# Altium integrated library TI Data Converters Digital to Analog Converter.IntLib: 1533 symbols (part 5 of 99)
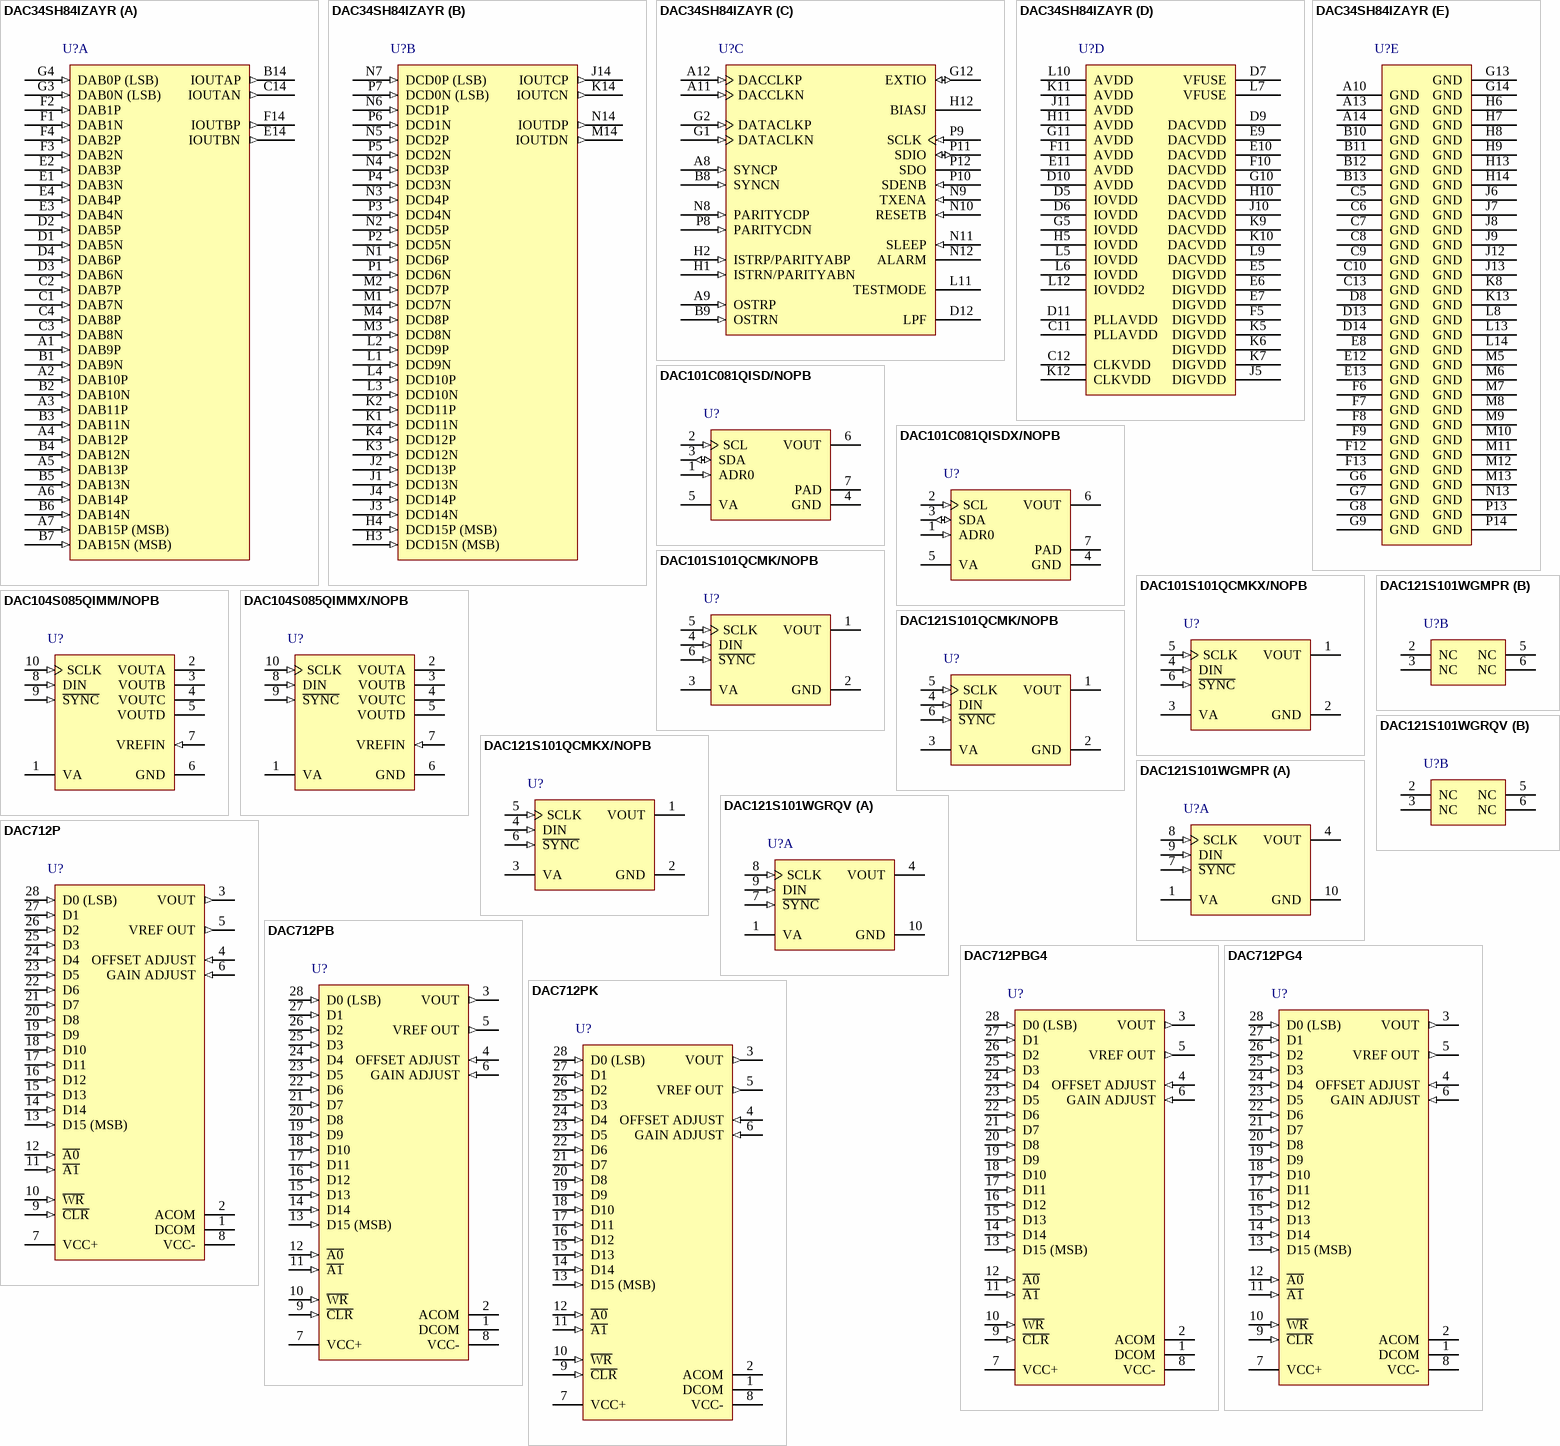
[diagram p77: symbols DAC34SH84IZAYR to DAC712PK]

## DAC712PBG4
designator U?
Digital-to-Converter with 16-Bit Bus Interface, -40 to 85 degC, 28-pin DIP (NT28), Green (RoHS & no Sb/Br); Manufacturer: Texas Instruments; PartNumber: DAC712PBG4; DAC Channels: 1; DNL(Max)(+/-LSB): 2; Interface: Parallel; Power Consumption(Typ)(mW): 525; Resolution(Bits): 16; Settling Time(us): 10; SubFamily: Precision DAC (=<10MSPS); DatasheetVersion: SBAS023A; PackageVersion: 4040050/C, 04/2009; PackageReference: NT28; PackageDescription: 28-Pin Plastic Dual-In-Line Package, Body 35.69 x 6.73 mm, Pitch 2.54 mm; Supplier 1: Digi-Key; Supplier Part Number 1: DAC712PBG4-ND; Supplier 2: Mouser; Supplier Part Number 2: 595-DAC712PBG4; Eco-Plan: Green (RoHS & no Sb/Br); INL(Max)(+/-LSB): 2; Mounting Technology: Through Hole; ComponentLink1Description: Manufacturer URL; ComponentLink1URL: http://www.ti.com/; ComponentLink2Description: Datasheet; ComponentLink2URL: http://www.ti.com/general/docs/lit/getliterature.tsp?genericPartNumber=DAC712&fileType=pdf; ComponentLink3Description: Package Specification; ComponentLink3URL: http://www.ti.com/lit/ml/mpdi004a/mpdi004a.pdf
footprint TI-NT28 (DIP, 28-Leads, Body 35.69x6.73mm, Pitch 2.54mm)
pins: 1 DCOM (power) "Power-Supply return for digital currents", 2 ACOM (power) "Analog Supply Return", 3 VOUT (out) "+/-10V D/A Output", 4 OFFSET ADJUST (in) "Offset Adjust (Bipolar)", 5 VREF OUT (out) "Voltage Reference Output", 6 GAIN ADJUST (in) "Gain Adjust", 7 VCC+ (power) "+12V to +15V Supply", 8 VCC- (power) "-12V to -15V Supply", 9 ~{CLR} (in) "CLEAR; Sets D/A output to Bipolar Zero (Active Low)", 10 ~{WR} (in) "Write (Active Low)", 11 ~{A1} (in) "Enable for D/A latch (Active Low)", 12 ~{A0} (in) "Enable for Input latch (Active Low)", 13 D15 (MSB) (in) "Data Bit 15 (Most Significant Bit)", 14 D14 (in) "Data Bit 14", 15 D13 (in) "Data Bit 13", 16 D12 (in) "Data Bit 12", 17 D11 (in) "Data Bit 11", 18 D10 (in) "Data Bit 10", 19 D9 (in) "Data Bit 9", 20 D8 (in) "Data Bit 8", 21 D7 (in) "Data Bit 7", 22 D6 (in) "Data Bit 6", 23 D5 (in) "Data Bit 5", 24 D4 (in) "Data Bit 4", 25 D3 (in) "Data Bit 3", 26 D2 (in) "Data Bit 2", 27 D1 (in) "Data Bit 1", 28 D0 (LSB) (in) "Data Bit 0 (Least Significant Bit)"

## DAC712PG4
designator U?
Digital-to-Converter with 16-Bit Bus Interface, -40 to 85 degC, 28-pin DIP (NT28), Green (RoHS & no Sb/Br); Manufacturer: Texas Instruments; PartNumber: DAC712PG4; DAC Channels: 1; DNL(Max)(+/-LSB): 4; Interface: Parallel; Power Consumption(Typ)(mW): 525; Resolution(Bits): 16; Settling Time(us): 10; SubFamily: Precision DAC (=<10MSPS); DatasheetVersion: SBAS023A; PackageVersion: 4040050/C, 04/2009; PackageReference: NT28; PackageDescription: 28-Pin Plastic Dual-In-Line Package, Body 35.69 x 6.73 mm, Pitch 2.54 mm; Supplier 1: Digi-Key; Supplier Part Number 1: DAC712PG4-ND; Supplier 2: Farnell; Supplier Part Number 2: 1178435; Supplier 3: Newark; Supplier Part Number 3: 24M1265; Supplier 4: Mouser; Supplier Part Number 4: 595-DAC712PG4; Eco-Plan: Green (RoHS & no Sb/Br); INL(Max)(+/-LSB): 4; Mounting Technology: Through Hole; ComponentLink1Description: Manufacturer URL; ComponentLink1URL: http://www.ti.com/; ComponentLink2Description: Datasheet; ComponentLink2URL: http://www.ti.com/general/docs/lit/getliterature.tsp?genericPartNumber=DAC712&fileType=pdf; ComponentLink3Description: Package Specification; ComponentLink3URL: http://www.ti.com/lit/ml/mpdi004a/mpdi004a.pdf
footprint TI-NT28 (DIP, 28-Leads, Body 35.69x6.73mm, Pitch 2.54mm)
pins: 1 DCOM (power) "Power-Supply return for digital currents", 2 ACOM (power) "Analog Supply Return", 3 VOUT (out) "+/-10V D/A Output", 4 OFFSET ADJUST (in) "Offset Adjust (Bipolar)", 5 VREF OUT (out) "Voltage Reference Output", 6 GAIN ADJUST (in) "Gain Adjust", 7 VCC+ (power) "+12V to +15V Supply", 8 VCC- (power) "-12V to -15V Supply", 9 ~{CLR} (in) "CLEAR; Sets D/A output to Bipolar Zero (Active Low)", 10 ~{WR} (in) "Write (Active Low)", 11 ~{A1} (in) "Enable for D/A latch (Active Low)", 12 ~{A0} (in) "Enable for Input latch (Active Low)", 13 D15 (MSB) (in) "Data Bit 15 (Most Significant Bit)", 14 D14 (in) "Data Bit 14", 15 D13 (in) "Data Bit 13", 16 D12 (in) "Data Bit 12", 17 D11 (in) "Data Bit 11", 18 D10 (in) "Data Bit 10", 19 D9 (in) "Data Bit 9", 20 D8 (in) "Data Bit 8", 21 D7 (in) "Data Bit 7", 22 D6 (in) "Data Bit 6", 23 D5 (in) "Data Bit 5", 24 D4 (in) "Data Bit 4", 25 D3 (in) "Data Bit 3", 26 D2 (in) "Data Bit 2", 27 D1 (in) "Data Bit 1", 28 D0 (LSB) (in) "Data Bit 0 (Least Significant Bit)"

## DAC712PK
designator U?
Digital-to-Converter with 16-Bit Bus Interface, 0 to 70 degC, 28-pin DIP (NT28), Green (RoHS & no Sb/Br); Manufacturer: Texas Instruments; PartNumber: DAC712PK; DAC Channels: 1; DNL(Max)(+/-LSB): 2; Interface: Parallel; Power Consumption(Typ)(mW): 525; Resolution(Bits): 16; Settling Time(us): 10; SubFamily: Precision DAC (=<10MSPS); DatasheetVersion: SBAS023A; PackageVersion: 4040050/C, 04/2009; PackageReference: NT28; PackageDescription: 28-Pin Plastic Dual-In-Line Package, Body 35.69 x 6.73 mm, Pitch 2.54 mm; Supplier 1: Digi-Key; Supplier Part Number 1: DAC712PK-ND; Supplier 2: Mouser; Supplier Part Number 2: 595-DAC712PK; Eco-Plan: Green (RoHS & no Sb/Br); INL(Max)(+/-LSB): 2; Mounting Technology: Through Hole; ComponentLink1Description: Manufacturer URL; ComponentLink1URL: http://www.ti.com/; ComponentLink2Description: Datasheet; ComponentLink2URL: http://www.ti.com/general/docs/lit/getliterature.tsp?genericPartNumber=DAC712&fileType=pdf; ComponentLink3Description: Package Specification; ComponentLink3URL: http://www.ti.com/lit/ml/mpdi004a/mpdi004a.pdf
footprint TI-NT28 (DIP, 28-Leads, Body 35.69x6.73mm, Pitch 2.54mm)
pins: 1 DCOM (power) "Power-Supply return for digital currents", 2 ACOM (power) "Analog Supply Return", 3 VOUT (out) "+/-10V D/A Output", 4 OFFSET ADJUST (in) "Offset Adjust (Bipolar)", 5 VREF OUT (out) "Voltage Reference Output", 6 GAIN ADJUST (in) "Gain Adjust", 7 VCC+ (power) "+12V to +15V Supply", 8 VCC- (power) "-12V to -15V Supply", 9 ~{CLR} (in) "CLEAR; Sets D/A output to Bipolar Zero (Active Low)", 10 ~{WR} (in) "Write (Active Low)", 11 ~{A1} (in) "Enable for D/A latch (Active Low)", 12 ~{A0} (in) "Enable for Input latch (Active Low)", 13 D15 (MSB) (in) "Data Bit 15 (Most Significant Bit)", 14 D14 (in) "Data Bit 14", 15 D13 (in) "Data Bit 13", 16 D12 (in) "Data Bit 12", 17 D11 (in) "Data Bit 11", 18 D10 (in) "Data Bit 10", 19 D9 (in) "Data Bit 9", 20 D8 (in) "Data Bit 8", 21 D7 (in) "Data Bit 7", 22 D6 (in) "Data Bit 6", 23 D5 (in) "Data Bit 5", 24 D4 (in) "Data Bit 4", 25 D3 (in) "Data Bit 3", 26 D2 (in) "Data Bit 2", 27 D1 (in) "Data Bit 1", 28 D0 (LSB) (in) "Data Bit 0 (Least Significant Bit)"

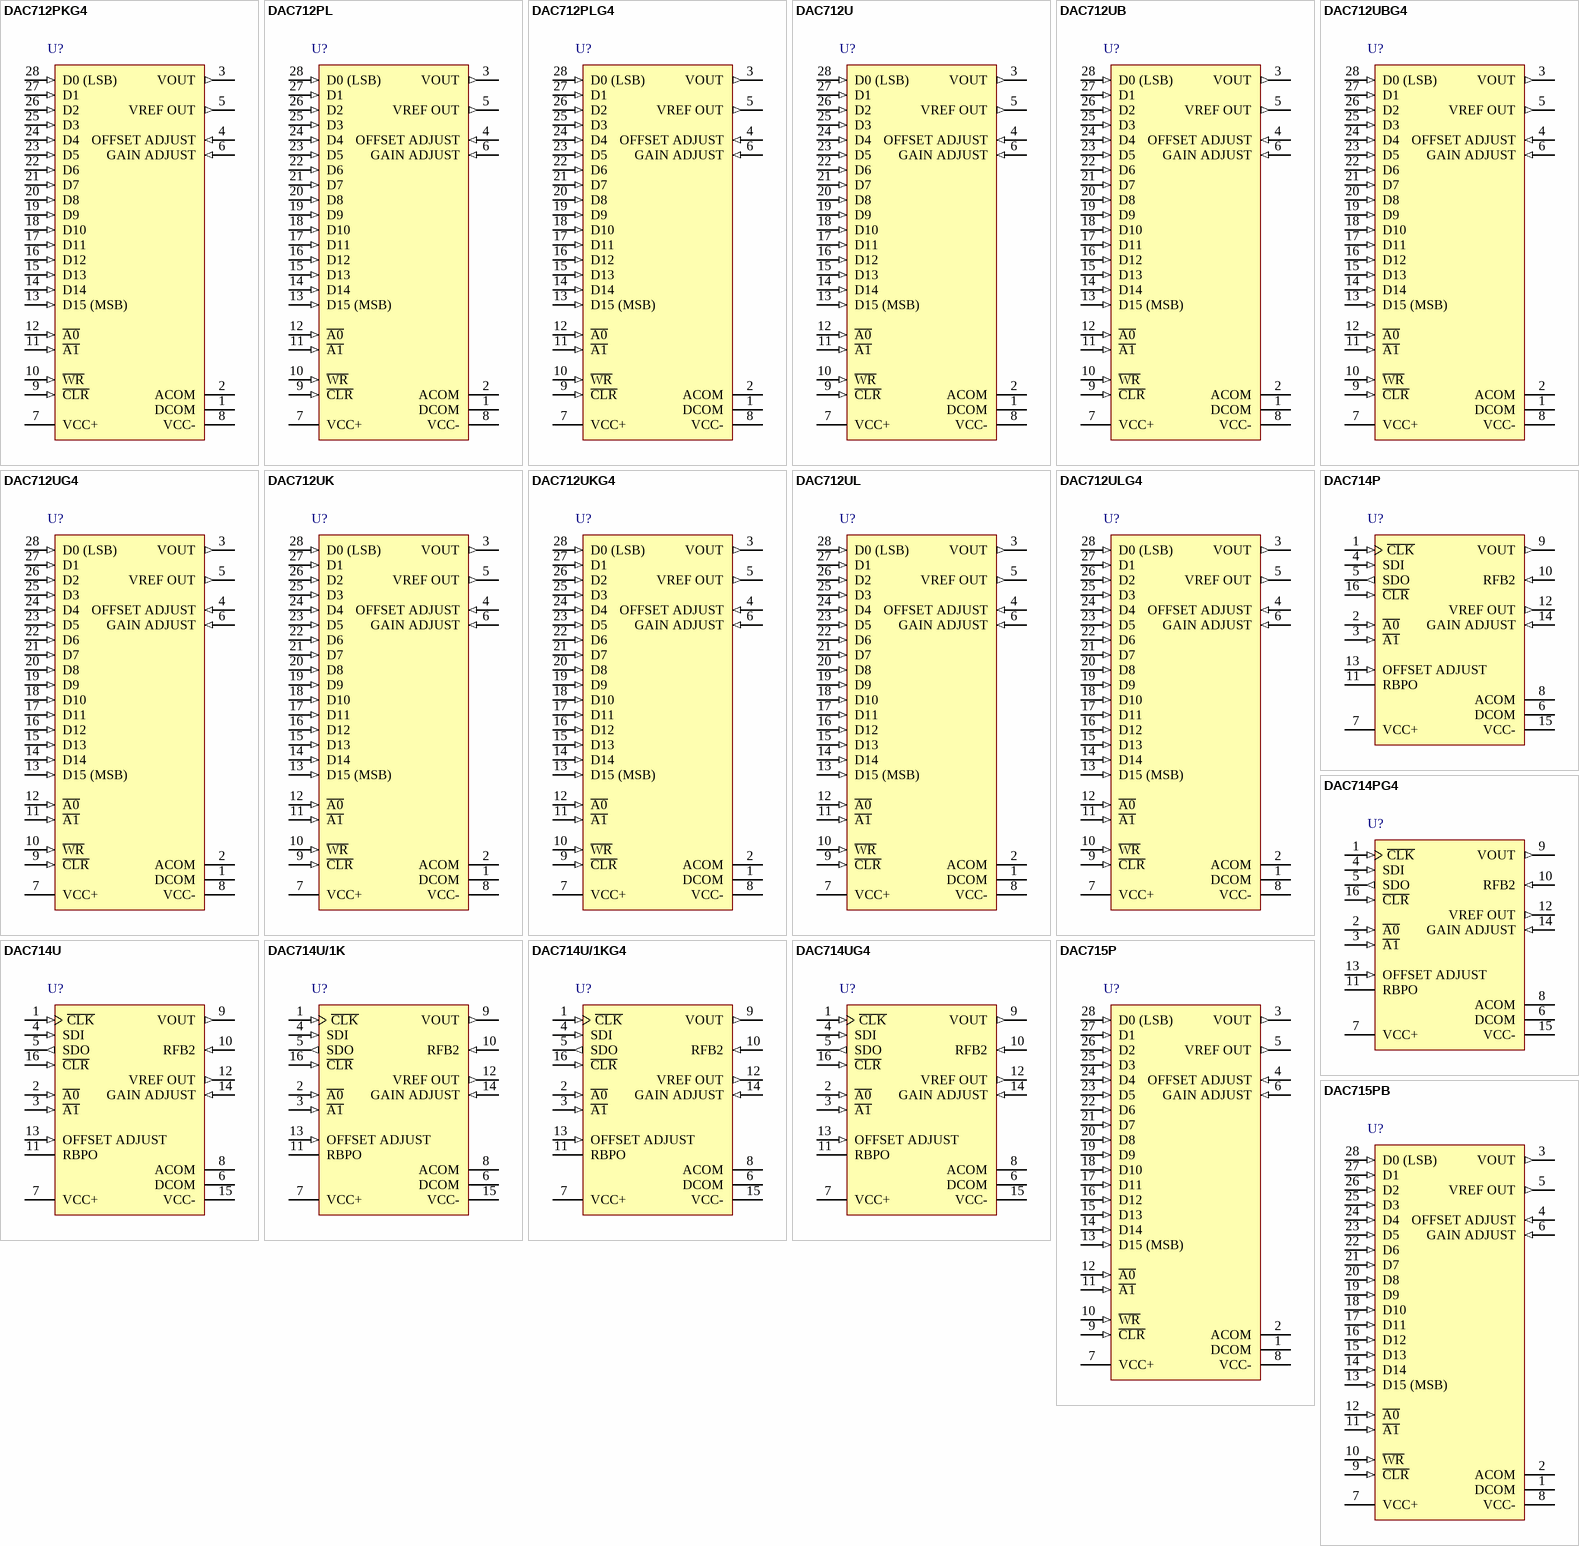
[diagram p3: symbols DAC712PKG4 to DAC715PB]

## DAC712PKG4
designator U?
Digital-to-Converter with 16-Bit Bus Interface, 0 to 70 degC, 28-pin DIP (NT28), Green (RoHS & no Sb/Br); Manufacturer: Texas Instruments; PartNumber: DAC712PKG4; DAC Channels: 1; DNL(Max)(+/-LSB): 2; Interface: Parallel; Power Consumption(Typ)(mW): 525; Resolution(Bits): 16; Settling Time(us): 10; SubFamily: Precision DAC (=<10MSPS); DatasheetVersion: SBAS023A; PackageVersion: 4040050/C, 04/2009; PackageReference: NT28; PackageDescription: 28-Pin Plastic Dual-In-Line Package, Body 35.69 x 6.73 mm, Pitch 2.54 mm; Supplier 1: Digi-Key; Supplier Part Number 1: DAC712PKG4-ND; Supplier 2: Newark; Supplier Part Number 2: 18M1973; Supplier 3: Mouser; Supplier Part Number 3: 595-DAC712PKG4; Eco-Plan: Green (RoHS & no Sb/Br); INL(Max)(+/-LSB): 2; Mounting Technology: Through Hole; ComponentLink1Description: Manufacturer URL; ComponentLink1URL: http://www.ti.com/; ComponentLink2Description: Datasheet; ComponentLink2URL: http://www.ti.com/general/docs/lit/getliterature.tsp?genericPartNumber=DAC712&fileType=pdf; ComponentLink3Description: Package Specification; ComponentLink3URL: http://www.ti.com/lit/ml/mpdi004a/mpdi004a.pdf
footprint TI-NT28 (DIP, 28-Leads, Body 35.69x6.73mm, Pitch 2.54mm)
pins: 1 DCOM (power) "Power-Supply return for digital currents", 2 ACOM (power) "Analog Supply Return", 3 VOUT (out) "+/-10V D/A Output", 4 OFFSET ADJUST (in) "Offset Adjust (Bipolar)", 5 VREF OUT (out) "Voltage Reference Output", 6 GAIN ADJUST (in) "Gain Adjust", 7 VCC+ (power) "+12V to +15V Supply", 8 VCC- (power) "-12V to -15V Supply", 9 ~{CLR} (in) "CLEAR; Sets D/A output to Bipolar Zero (Active Low)", 10 ~{WR} (in) "Write (Active Low)", 11 ~{A1} (in) "Enable for D/A latch (Active Low)", 12 ~{A0} (in) "Enable for Input latch (Active Low)", 13 D15 (MSB) (in) "Data Bit 15 (Most Significant Bit)", 14 D14 (in) "Data Bit 14", 15 D13 (in) "Data Bit 13", 16 D12 (in) "Data Bit 12", 17 D11 (in) "Data Bit 11", 18 D10 (in) "Data Bit 10", 19 D9 (in) "Data Bit 9", 20 D8 (in) "Data Bit 8", 21 D7 (in) "Data Bit 7", 22 D6 (in) "Data Bit 6", 23 D5 (in) "Data Bit 5", 24 D4 (in) "Data Bit 4", 25 D3 (in) "Data Bit 3", 26 D2 (in) "Data Bit 2", 27 D1 (in) "Data Bit 1", 28 D0 (LSB) (in) "Data Bit 0 (Least Significant Bit)"

## DAC712PL
designator U?
Digital-to-Converter with 16-Bit Bus Interface, 0 to 70 degC, 28-pin DIP (NT28), Green (RoHS & no Sb/Br); Manufacturer: Texas Instruments; PartNumber: DAC712PL; DAC Channels: 1; INL(Max)(+/-LSB): 2; Interface: Parallel; Power Consumption(Typ)(mW): 525; Resolution(Bits): 16; Settling Time(us): 10; SubFamily: Precision DAC (=<10MSPS); DatasheetVersion: SBAS023A; PackageVersion: 4040050/C, 04/2009; PackageReference: NT28; PackageDescription: 28-Pin Plastic Dual-In-Line Package, Body 35.69 x 6.73 mm, Pitch 2.54 mm; Supplier 1: Digi-Key; Supplier Part Number 1: DAC712PL-ND; Supplier 2: Mouser; Supplier Part Number 2: 595-DAC712PL; DNL(Max)(+/-LSB): 1; Eco-Plan: Green (RoHS & no Sb/Br); Mounting Technology: Through Hole; ComponentLink1Description: Manufacturer URL; ComponentLink1URL: http://www.ti.com/; ComponentLink2Description: Datasheet; ComponentLink2URL: http://www.ti.com/general/docs/lit/getliterature.tsp?genericPartNumber=DAC712&fileType=pdf; ComponentLink3Description: Package Specification; ComponentLink3URL: http://www.ti.com/lit/ml/mpdi004a/mpdi004a.pdf
footprint TI-NT28 (DIP, 28-Leads, Body 35.69x6.73mm, Pitch 2.54mm)
pins: 1 DCOM (power) "Power-Supply return for digital currents", 2 ACOM (power) "Analog Supply Return", 3 VOUT (out) "+/-10V D/A Output", 4 OFFSET ADJUST (in) "Offset Adjust (Bipolar)", 5 VREF OUT (out) "Voltage Reference Output", 6 GAIN ADJUST (in) "Gain Adjust", 7 VCC+ (power) "+12V to +15V Supply", 8 VCC- (power) "-12V to -15V Supply", 9 ~{CLR} (in) "CLEAR; Sets D/A output to Bipolar Zero (Active Low)", 10 ~{WR} (in) "Write (Active Low)", 11 ~{A1} (in) "Enable for D/A latch (Active Low)", 12 ~{A0} (in) "Enable for Input latch (Active Low)", 13 D15 (MSB) (in) "Data Bit 15 (Most Significant Bit)", 14 D14 (in) "Data Bit 14", 15 D13 (in) "Data Bit 13", 16 D12 (in) "Data Bit 12", 17 D11 (in) "Data Bit 11", 18 D10 (in) "Data Bit 10", 19 D9 (in) "Data Bit 9", 20 D8 (in) "Data Bit 8", 21 D7 (in) "Data Bit 7", 22 D6 (in) "Data Bit 6", 23 D5 (in) "Data Bit 5", 24 D4 (in) "Data Bit 4", 25 D3 (in) "Data Bit 3", 26 D2 (in) "Data Bit 2", 27 D1 (in) "Data Bit 1", 28 D0 (LSB) (in) "Data Bit 0 (Least Significant Bit)"

## DAC712PLG4
designator U?
Digital-to-Converter with 16-Bit Bus Interface, 0 to 70 degC, 28-pin DIP (NT28), Green (RoHS & no Sb/Br); Manufacturer: Texas Instruments; PartNumber: DAC712PLG4; DAC Channels: 1; INL(Max)(+/-LSB): 2; Interface: Parallel; Power Consumption(Typ)(mW): 525; Resolution(Bits): 16; Settling Time(us): 10; SubFamily: Precision DAC (=<10MSPS); DatasheetVersion: SBAS023A; PackageVersion: 4040050/C, 04/2009; PackageReference: NT28; PackageDescription: 28-Pin Plastic Dual-In-Line Package, Body 35.69 x 6.73 mm, Pitch 2.54 mm; Supplier 1: Digi-Key; Supplier Part Number 1: DAC712PLG4-ND; Supplier 2: Mouser; Supplier Part Number 2: 595-DAC712PLG4; DNL(Max)(+/-LSB): 1; Eco-Plan: Green (RoHS & no Sb/Br); Mounting Technology: Through Hole; ComponentLink1Description: Manufacturer URL; ComponentLink1URL: http://www.ti.com/; ComponentLink2Description: Datasheet; ComponentLink2URL: http://www.ti.com/general/docs/lit/getliterature.tsp?genericPartNumber=DAC712&fileType=pdf; ComponentLink3Description: Package Specification; ComponentLink3URL: http://www.ti.com/lit/ml/mpdi004a/mpdi004a.pdf
footprint TI-NT28 (DIP, 28-Leads, Body 35.69x6.73mm, Pitch 2.54mm)
pins: 1 DCOM (power) "Power-Supply return for digital currents", 2 ACOM (power) "Analog Supply Return", 3 VOUT (out) "+/-10V D/A Output", 4 OFFSET ADJUST (in) "Offset Adjust (Bipolar)", 5 VREF OUT (out) "Voltage Reference Output", 6 GAIN ADJUST (in) "Gain Adjust", 7 VCC+ (power) "+12V to +15V Supply", 8 VCC- (power) "-12V to -15V Supply", 9 ~{CLR} (in) "CLEAR; Sets D/A output to Bipolar Zero (Active Low)", 10 ~{WR} (in) "Write (Active Low)", 11 ~{A1} (in) "Enable for D/A latch (Active Low)", 12 ~{A0} (in) "Enable for Input latch (Active Low)", 13 D15 (MSB) (in) "Data Bit 15 (Most Significant Bit)", 14 D14 (in) "Data Bit 14", 15 D13 (in) "Data Bit 13", 16 D12 (in) "Data Bit 12", 17 D11 (in) "Data Bit 11", 18 D10 (in) "Data Bit 10", 19 D9 (in) "Data Bit 9", 20 D8 (in) "Data Bit 8", 21 D7 (in) "Data Bit 7", 22 D6 (in) "Data Bit 6", 23 D5 (in) "Data Bit 5", 24 D4 (in) "Data Bit 4", 25 D3 (in) "Data Bit 3", 26 D2 (in) "Data Bit 2", 27 D1 (in) "Data Bit 1", 28 D0 (LSB) (in) "Data Bit 0 (Least Significant Bit)"

## DAC712U
designator U?
Digital-to-Converter with 16-Bit Bus Interface, -40 to 85 degC, 28-pin SOIC (DW28), Green (RoHS & no Sb/Br); Manufacturer: Texas Instruments; PartNumber: DAC712U; DAC Channels: 1; DNL(Max)(+/-LSB): 4; Interface: Parallel; Power Consumption(Typ)(mW): 525; Resolution(Bits): 16; Settling Time(us): 10; SubFamily: Precision DAC (=<10MSPS); DatasheetVersion: SBAS023A; PackageVersion: 4040000-6/G, 01/2011; PackageReference: DW28; PackageDescription: 28-Pin Plastic Small Outline, Body 17.90 x 7.50 mm, Pitch 1.27 mm; Supplier 1: Digi-Key; Supplier Part Number 1: DAC712U-ND; Supplier 2: Farnell; Supplier Part Number 2: 1097510; Supplier 3: Newark; Supplier Part Number 3: 74C9132; Supplier 4: Mouser; Supplier Part Number 4: 595-DAC712U; Eco-Plan: Green (RoHS & no Sb/Br); INL(Max)(+/-LSB): 4; Mounting Technology: Surface Mount; Code_JEDEC: MS-013; ComponentLink1Description: Manufacturer URL; ComponentLink1URL: http://www.ti.com/; ComponentLink2Description: Datasheet; ComponentLink2URL: http://www.ti.com/general/docs/lit/getliterature.tsp?genericPartNumber=DAC712&fileType=pdf; ComponentLink3Description: Package Specification; ComponentLink3URL: http://www.ti.com/lit/ml/mpds175a/mpds175a.pdf
footprint TI-DW28_N (SOIC, 28-Leads, Body 17.9x7.5mm, Pitch 1.27mm, IPC Medium Density)
footprint TI-DW28_L (SOIC, 28-Leads, Body 17.9x7.5mm, Pitch 1.27mm, IPC High Density)
footprint TI-DW28_M (SOIC, 28-Leads, Body 17.9x7.5mm, Pitch 1.27mm, IPC Low Density)
pins: 1 DCOM (power) "Power-Supply return for digital currents", 2 ACOM (power) "Analog Supply Return", 3 VOUT (out) "+/-10V D/A Output", 4 OFFSET ADJUST (in) "Offset Adjust (Bipolar)", 5 VREF OUT (out) "Voltage Reference Output", 6 GAIN ADJUST (in) "Gain Adjust", 7 VCC+ (power) "+12V to +15V Supply", 8 VCC- (power) "-12V to -15V Supply", 9 ~{CLR} (in) "CLEAR; Sets D/A output to Bipolar Zero (Active Low)", 10 ~{WR} (in) "Write (Active Low)", 11 ~{A1} (in) "Enable for D/A latch (Active Low)", 12 ~{A0} (in) "Enable for Input latch (Active Low)", 13 D15 (MSB) (in) "Data Bit 15 (Most Significant Bit)", 14 D14 (in) "Data Bit 14", 15 D13 (in) "Data Bit 13", 16 D12 (in) "Data Bit 12", 17 D11 (in) "Data Bit 11", 18 D10 (in) "Data Bit 10", 19 D9 (in) "Data Bit 9", 20 D8 (in) "Data Bit 8", 21 D7 (in) "Data Bit 7", 22 D6 (in) "Data Bit 6", 23 D5 (in) "Data Bit 5", 24 D4 (in) "Data Bit 4", 25 D3 (in) "Data Bit 3", 26 D2 (in) "Data Bit 2", 27 D1 (in) "Data Bit 1", 28 D0 (LSB) (in) "Data Bit 0 (Least Significant Bit)"

## DAC712UB
designator U?
Digital-to-Converter with 16-Bit Bus Interface, -40 to 85 degC, 28-pin SOIC (DW28), Green (RoHS & no Sb/Br); Manufacturer: Texas Instruments; PartNumber: DAC712UB; DAC Channels: 1; DNL(Max)(+/-LSB): 2; Interface: Parallel; Power Consumption(Typ)(mW): 525; Resolution(Bits): 16; Settling Time(us): 10; SubFamily: Precision DAC (=<10MSPS); DatasheetVersion: SBAS023A; PackageVersion: 4040000-6/G, 01/2011; PackageReference: DW28; PackageDescription: 28-Pin Plastic Small Outline, Body 17.90 x 7.50 mm, Pitch 1.27 mm; Supplier 1: Digi-Key; Supplier Part Number 1: 296-14008-5-ND; Supplier 2: Newark; Supplier Part Number 2: 10M5148; Supplier 3: Mouser; Supplier Part Number 3: 595-DAC712UB; Eco-Plan: Green (RoHS & no Sb/Br); INL(Max)(+/-LSB): 2; Mounting Technology: Surface Mount; Code_JEDEC: MS-013; ComponentLink1Description: Manufacturer URL; ComponentLink1URL: http://www.ti.com/; ComponentLink2Description: Datasheet; ComponentLink2URL: http://www.ti.com/general/docs/lit/getliterature.tsp?genericPartNumber=DAC712&fileType=pdf; ComponentLink3Description: Package Specification; ComponentLink3URL: http://www.ti.com/lit/ml/mpds175a/mpds175a.pdf
footprint TI-DW28_N (SOIC, 28-Leads, Body 17.9x7.5mm, Pitch 1.27mm, IPC Medium Density)
footprint TI-DW28_L (SOIC, 28-Leads, Body 17.9x7.5mm, Pitch 1.27mm, IPC High Density)
footprint TI-DW28_M (SOIC, 28-Leads, Body 17.9x7.5mm, Pitch 1.27mm, IPC Low Density)
pins: 1 DCOM (power) "Power-Supply return for digital currents", 2 ACOM (power) "Analog Supply Return", 3 VOUT (out) "+/-10V D/A Output", 4 OFFSET ADJUST (in) "Offset Adjust (Bipolar)", 5 VREF OUT (out) "Voltage Reference Output", 6 GAIN ADJUST (in) "Gain Adjust", 7 VCC+ (power) "+12V to +15V Supply", 8 VCC- (power) "-12V to -15V Supply", 9 ~{CLR} (in) "CLEAR; Sets D/A output to Bipolar Zero (Active Low)", 10 ~{WR} (in) "Write (Active Low)", 11 ~{A1} (in) "Enable for D/A latch (Active Low)", 12 ~{A0} (in) "Enable for Input latch (Active Low)", 13 D15 (MSB) (in) "Data Bit 15 (Most Significant Bit)", 14 D14 (in) "Data Bit 14", 15 D13 (in) "Data Bit 13", 16 D12 (in) "Data Bit 12", 17 D11 (in) "Data Bit 11", 18 D10 (in) "Data Bit 10", 19 D9 (in) "Data Bit 9", 20 D8 (in) "Data Bit 8", 21 D7 (in) "Data Bit 7", 22 D6 (in) "Data Bit 6", 23 D5 (in) "Data Bit 5", 24 D4 (in) "Data Bit 4", 25 D3 (in) "Data Bit 3", 26 D2 (in) "Data Bit 2", 27 D1 (in) "Data Bit 1", 28 D0 (LSB) (in) "Data Bit 0 (Least Significant Bit)"

## DAC712UBG4
designator U?
Digital-to-Converter with 16-Bit Bus Interface, -40 to 85 degC, 28-pin SOIC (DW28), Green (RoHS & no Sb/Br); Manufacturer: Texas Instruments; PartNumber: DAC712UBG4; DAC Channels: 1; DNL(Max)(+/-LSB): 2; Interface: Parallel; Power Consumption(Typ)(mW): 525; Resolution(Bits): 16; Settling Time(us): 10; SubFamily: Precision DAC (=<10MSPS); DatasheetVersion: SBAS023A; PackageVersion: 4040000-6/G, 01/2011; PackageReference: DW28; PackageDescription: 28-Pin Plastic Small Outline, Body 17.90 x 7.50 mm, Pitch 1.27 mm; Supplier 1: Digi-Key; Supplier Part Number 1: DAC712UBG4-ND; Supplier 2: Mouser; Supplier Part Number 2: 595-DAC712UBG4; Eco-Plan: Green (RoHS & no Sb/Br); INL(Max)(+/-LSB): 2; Mounting Technology: Surface Mount; Code_JEDEC: MS-013; ComponentLink1Description: Manufacturer URL; ComponentLink1URL: http://www.ti.com/; ComponentLink2Description: Datasheet; ComponentLink2URL: http://www.ti.com/general/docs/lit/getliterature.tsp?genericPartNumber=DAC712&fileType=pdf; ComponentLink3Description: Package Specification; ComponentLink3URL: http://www.ti.com/lit/ml/mpds175a/mpds175a.pdf
footprint TI-DW28_N (SOIC, 28-Leads, Body 17.9x7.5mm, Pitch 1.27mm, IPC Medium Density)
footprint TI-DW28_L (SOIC, 28-Leads, Body 17.9x7.5mm, Pitch 1.27mm, IPC High Density)
footprint TI-DW28_M (SOIC, 28-Leads, Body 17.9x7.5mm, Pitch 1.27mm, IPC Low Density)
pins: 1 DCOM (power) "Power-Supply return for digital currents", 2 ACOM (power) "Analog Supply Return", 3 VOUT (out) "+/-10V D/A Output", 4 OFFSET ADJUST (in) "Offset Adjust (Bipolar)", 5 VREF OUT (out) "Voltage Reference Output", 6 GAIN ADJUST (in) "Gain Adjust", 7 VCC+ (power) "+12V to +15V Supply", 8 VCC- (power) "-12V to -15V Supply", 9 ~{CLR} (in) "CLEAR; Sets D/A output to Bipolar Zero (Active Low)", 10 ~{WR} (in) "Write (Active Low)", 11 ~{A1} (in) "Enable for D/A latch (Active Low)", 12 ~{A0} (in) "Enable for Input latch (Active Low)", 13 D15 (MSB) (in) "Data Bit 15 (Most Significant Bit)", 14 D14 (in) "Data Bit 14", 15 D13 (in) "Data Bit 13", 16 D12 (in) "Data Bit 12", 17 D11 (in) "Data Bit 11", 18 D10 (in) "Data Bit 10", 19 D9 (in) "Data Bit 9", 20 D8 (in) "Data Bit 8", 21 D7 (in) "Data Bit 7", 22 D6 (in) "Data Bit 6", 23 D5 (in) "Data Bit 5", 24 D4 (in) "Data Bit 4", 25 D3 (in) "Data Bit 3", 26 D2 (in) "Data Bit 2", 27 D1 (in) "Data Bit 1", 28 D0 (LSB) (in) "Data Bit 0 (Least Significant Bit)"

## DAC712UG4
designator U?
Digital-to-Converter with 16-Bit Bus Interface, -40 to 85 degC, 28-pin SOIC (DW28), Green (RoHS & no Sb/Br); Manufacturer: Texas Instruments; PartNumber: DAC712UG4; DAC Channels: 1; DNL(Max)(+/-LSB): 4; Interface: Parallel; Power Consumption(Typ)(mW): 525; Resolution(Bits): 16; Settling Time(us): 10; SubFamily: Precision DAC (=<10MSPS); DatasheetVersion: SBAS023A; PackageVersion: 4040000-6/G, 01/2011; PackageReference: DW28; PackageDescription: 28-Pin Plastic Small Outline, Body 17.90 x 7.50 mm, Pitch 1.27 mm; Supplier 1: Digi-Key; Supplier Part Number 1: DAC712UG4-ND; Supplier 2: Mouser; Supplier Part Number 2: 595-DAC712UG4; Eco-Plan: Green (RoHS & no Sb/Br); INL(Max)(+/-LSB): 4; Mounting Technology: Surface Mount; Code_JEDEC: MS-013; ComponentLink1Description: Manufacturer URL; ComponentLink1URL: http://www.ti.com/; ComponentLink2Description: Datasheet; ComponentLink2URL: http://www.ti.com/general/docs/lit/getliterature.tsp?genericPartNumber=DAC712&fileType=pdf; ComponentLink3Description: Package Specification; ComponentLink3URL: http://www.ti.com/lit/ml/mpds175a/mpds175a.pdf
footprint TI-DW28_N (SOIC, 28-Leads, Body 17.9x7.5mm, Pitch 1.27mm, IPC Medium Density)
footprint TI-DW28_L (SOIC, 28-Leads, Body 17.9x7.5mm, Pitch 1.27mm, IPC High Density)
footprint TI-DW28_M (SOIC, 28-Leads, Body 17.9x7.5mm, Pitch 1.27mm, IPC Low Density)
pins: 1 DCOM (power) "Power-Supply return for digital currents", 2 ACOM (power) "Analog Supply Return", 3 VOUT (out) "+/-10V D/A Output", 4 OFFSET ADJUST (in) "Offset Adjust (Bipolar)", 5 VREF OUT (out) "Voltage Reference Output", 6 GAIN ADJUST (in) "Gain Adjust", 7 VCC+ (power) "+12V to +15V Supply", 8 VCC- (power) "-12V to -15V Supply", 9 ~{CLR} (in) "CLEAR; Sets D/A output to Bipolar Zero (Active Low)", 10 ~{WR} (in) "Write (Active Low)", 11 ~{A1} (in) "Enable for D/A latch (Active Low)", 12 ~{A0} (in) "Enable for Input latch (Active Low)", 13 D15 (MSB) (in) "Data Bit 15 (Most Significant Bit)", 14 D14 (in) "Data Bit 14", 15 D13 (in) "Data Bit 13", 16 D12 (in) "Data Bit 12", 17 D11 (in) "Data Bit 11", 18 D10 (in) "Data Bit 10", 19 D9 (in) "Data Bit 9", 20 D8 (in) "Data Bit 8", 21 D7 (in) "Data Bit 7", 22 D6 (in) "Data Bit 6", 23 D5 (in) "Data Bit 5", 24 D4 (in) "Data Bit 4", 25 D3 (in) "Data Bit 3", 26 D2 (in) "Data Bit 2", 27 D1 (in) "Data Bit 1", 28 D0 (LSB) (in) "Data Bit 0 (Least Significant Bit)"

## DAC712UK
designator U?
Digital-to-Converter with 16-Bit Bus Interface, 0 to 70 degC, 28-pin SOIC (DW28), Green (RoHS & no Sb/Br); Manufacturer: Texas Instruments; PartNumber: DAC712UK; DAC Channels: 1; DNL(Max)(+/-LSB): 2; Interface: Parallel; Power Consumption(Typ)(mW): 525; Resolution(Bits): 16; Settling Time(us): 10; SubFamily: Precision DAC (=<10MSPS); DatasheetVersion: SBAS023A; PackageVersion: 4040000-6/G, 01/2011; PackageReference: DW28; PackageDescription: 28-Pin Plastic Small Outline, Body 17.90 x 7.50 mm, Pitch 1.27 mm; Supplier 1: Digi-Key; Supplier Part Number 1: 296-26042-5-ND; Supplier 2: Newark; Supplier Part Number 2: 67C3271; Supplier 3: Mouser; Supplier Part Number 3: 595-DAC712UK; Eco-Plan: Green (RoHS & no Sb/Br); INL(Max)(+/-LSB): 2; Mounting Technology: Surface Mount; Code_JEDEC: MS-013; ComponentLink1Description: Manufacturer URL; ComponentLink1URL: http://www.ti.com/; ComponentLink2Description: Datasheet; ComponentLink2URL: http://www.ti.com/general/docs/lit/getliterature.tsp?genericPartNumber=DAC712&fileType=pdf; ComponentLink3Description: Package Specification; ComponentLink3URL: http://www.ti.com/lit/ml/mpds175a/mpds175a.pdf
footprint TI-DW28_N (SOIC, 28-Leads, Body 17.9x7.5mm, Pitch 1.27mm, IPC Medium Density)
footprint TI-DW28_L (SOIC, 28-Leads, Body 17.9x7.5mm, Pitch 1.27mm, IPC High Density)
footprint TI-DW28_M (SOIC, 28-Leads, Body 17.9x7.5mm, Pitch 1.27mm, IPC Low Density)
pins: 1 DCOM (power) "Power-Supply return for digital currents", 2 ACOM (power) "Analog Supply Return", 3 VOUT (out) "+/-10V D/A Output", 4 OFFSET ADJUST (in) "Offset Adjust (Bipolar)", 5 VREF OUT (out) "Voltage Reference Output", 6 GAIN ADJUST (in) "Gain Adjust", 7 VCC+ (power) "+12V to +15V Supply", 8 VCC- (power) "-12V to -15V Supply", 9 ~{CLR} (in) "CLEAR; Sets D/A output to Bipolar Zero (Active Low)", 10 ~{WR} (in) "Write (Active Low)", 11 ~{A1} (in) "Enable for D/A latch (Active Low)", 12 ~{A0} (in) "Enable for Input latch (Active Low)", 13 D15 (MSB) (in) "Data Bit 15 (Most Significant Bit)", 14 D14 (in) "Data Bit 14", 15 D13 (in) "Data Bit 13", 16 D12 (in) "Data Bit 12", 17 D11 (in) "Data Bit 11", 18 D10 (in) "Data Bit 10", 19 D9 (in) "Data Bit 9", 20 D8 (in) "Data Bit 8", 21 D7 (in) "Data Bit 7", 22 D6 (in) "Data Bit 6", 23 D5 (in) "Data Bit 5", 24 D4 (in) "Data Bit 4", 25 D3 (in) "Data Bit 3", 26 D2 (in) "Data Bit 2", 27 D1 (in) "Data Bit 1", 28 D0 (LSB) (in) "Data Bit 0 (Least Significant Bit)"

## DAC712UKG4
designator U?
Digital-to-Converter with 16-Bit Bus Interface, 0 to 70 degC, 28-pin SOIC (DW28), Green (RoHS & no Sb/Br); Manufacturer: Texas Instruments; PartNumber: DAC712UKG4; DAC Channels: 1; DNL(Max)(+/-LSB): 2; Interface: Parallel; Power Consumption(Typ)(mW): 525; Resolution(Bits): 16; Settling Time(us): 10; SubFamily: Precision DAC (=<10MSPS); DatasheetVersion: SBAS023A; PackageVersion: 4040000-6/G, 01/2011; PackageReference: DW28; PackageDescription: 28-Pin Plastic Small Outline, Body 17.90 x 7.50 mm, Pitch 1.27 mm; Supplier 1: Digi-Key; Supplier Part Number 1: DAC712UKG4-ND; Supplier 2: Mouser; Supplier Part Number 2: 595-DAC712UKG4; Eco-Plan: Green (RoHS & no Sb/Br); INL(Max)(+/-LSB): 2; Mounting Technology: Surface Mount; Code_JEDEC: MS-013; ComponentLink1Description: Manufacturer URL; ComponentLink1URL: http://www.ti.com/; ComponentLink2Description: Datasheet; ComponentLink2URL: http://www.ti.com/general/docs/lit/getliterature.tsp?genericPartNumber=DAC712&fileType=pdf; ComponentLink3Description: Package Specification; ComponentLink3URL: http://www.ti.com/lit/ml/mpds175a/mpds175a.pdf
footprint TI-DW28_N (SOIC, 28-Leads, Body 17.9x7.5mm, Pitch 1.27mm, IPC Medium Density)
footprint TI-DW28_L (SOIC, 28-Leads, Body 17.9x7.5mm, Pitch 1.27mm, IPC High Density)
footprint TI-DW28_M (SOIC, 28-Leads, Body 17.9x7.5mm, Pitch 1.27mm, IPC Low Density)
pins: 1 DCOM (power) "Power-Supply return for digital currents", 2 ACOM (power) "Analog Supply Return", 3 VOUT (out) "+/-10V D/A Output", 4 OFFSET ADJUST (in) "Offset Adjust (Bipolar)", 5 VREF OUT (out) "Voltage Reference Output", 6 GAIN ADJUST (in) "Gain Adjust", 7 VCC+ (power) "+12V to +15V Supply", 8 VCC- (power) "-12V to -15V Supply", 9 ~{CLR} (in) "CLEAR; Sets D/A output to Bipolar Zero (Active Low)", 10 ~{WR} (in) "Write (Active Low)", 11 ~{A1} (in) "Enable for D/A latch (Active Low)", 12 ~{A0} (in) "Enable for Input latch (Active Low)", 13 D15 (MSB) (in) "Data Bit 15 (Most Significant Bit)", 14 D14 (in) "Data Bit 14", 15 D13 (in) "Data Bit 13", 16 D12 (in) "Data Bit 12", 17 D11 (in) "Data Bit 11", 18 D10 (in) "Data Bit 10", 19 D9 (in) "Data Bit 9", 20 D8 (in) "Data Bit 8", 21 D7 (in) "Data Bit 7", 22 D6 (in) "Data Bit 6", 23 D5 (in) "Data Bit 5", 24 D4 (in) "Data Bit 4", 25 D3 (in) "Data Bit 3", 26 D2 (in) "Data Bit 2", 27 D1 (in) "Data Bit 1", 28 D0 (LSB) (in) "Data Bit 0 (Least Significant Bit)"

## DAC712UL
designator U?
Digital-to-Converter with 16-Bit Bus Interface, 0 to 70 degC, 28-pin SOIC (DW28), Green (RoHS & no Sb/Br); Manufacturer: Texas Instruments; PartNumber: DAC712UL; DAC Channels: 1; INL(Max)(+/-LSB): 2; Interface: Parallel; Power Consumption(Typ)(mW): 525; Resolution(Bits): 16; Settling Time(us): 10; SubFamily: Precision DAC (=<10MSPS); DatasheetVersion: SBAS023A; PackageVersion: 4040000-6/G, 01/2011; PackageReference: DW28; PackageDescription: 28-Pin Plastic Small Outline, Body 17.90 x 7.50 mm, Pitch 1.27 mm; Supplier 1: Digi-Key; Supplier Part Number 1: 296-33252-5-ND; Supplier 2: Newark; Supplier Part Number 2: 74C9134; Supplier 3: Mouser; Supplier Part Number 3: 595-DAC712UL; DNL(Max)(+/-LSB): 1; Eco-Plan: Green (RoHS & no Sb/Br); Mounting Technology: Surface Mount; Code_JEDEC: MS-013; ComponentLink1Description: Manufacturer URL; ComponentLink1URL: http://www.ti.com/; ComponentLink2Description: Datasheet; ComponentLink2URL: http://www.ti.com/general/docs/lit/getliterature.tsp?genericPartNumber=DAC712&fileType=pdf; ComponentLink3Description: Package Specification; ComponentLink3URL: http://www.ti.com/lit/ml/mpds175a/mpds175a.pdf
footprint TI-DW28_N (SOIC, 28-Leads, Body 17.9x7.5mm, Pitch 1.27mm, IPC Medium Density)
footprint TI-DW28_L (SOIC, 28-Leads, Body 17.9x7.5mm, Pitch 1.27mm, IPC High Density)
footprint TI-DW28_M (SOIC, 28-Leads, Body 17.9x7.5mm, Pitch 1.27mm, IPC Low Density)
pins: 1 DCOM (power) "Power-Supply return for digital currents", 2 ACOM (power) "Analog Supply Return", 3 VOUT (out) "+/-10V D/A Output", 4 OFFSET ADJUST (in) "Offset Adjust (Bipolar)", 5 VREF OUT (out) "Voltage Reference Output", 6 GAIN ADJUST (in) "Gain Adjust", 7 VCC+ (power) "+12V to +15V Supply", 8 VCC- (power) "-12V to -15V Supply", 9 ~{CLR} (in) "CLEAR; Sets D/A output to Bipolar Zero (Active Low)", 10 ~{WR} (in) "Write (Active Low)", 11 ~{A1} (in) "Enable for D/A latch (Active Low)", 12 ~{A0} (in) "Enable for Input latch (Active Low)", 13 D15 (MSB) (in) "Data Bit 15 (Most Significant Bit)", 14 D14 (in) "Data Bit 14", 15 D13 (in) "Data Bit 13", 16 D12 (in) "Data Bit 12", 17 D11 (in) "Data Bit 11", 18 D10 (in) "Data Bit 10", 19 D9 (in) "Data Bit 9", 20 D8 (in) "Data Bit 8", 21 D7 (in) "Data Bit 7", 22 D6 (in) "Data Bit 6", 23 D5 (in) "Data Bit 5", 24 D4 (in) "Data Bit 4", 25 D3 (in) "Data Bit 3", 26 D2 (in) "Data Bit 2", 27 D1 (in) "Data Bit 1", 28 D0 (LSB) (in) "Data Bit 0 (Least Significant Bit)"

## DAC712ULG4
designator U?
Digital-to-Converter with 16-Bit Bus Interface, 0 to 70 degC, 28-pin SOIC (DW28), Green (RoHS & no Sb/Br); Manufacturer: Texas Instruments; PartNumber: DAC712ULG4; DAC Channels: 1; INL(Max)(+/-LSB): 2; Interface: Parallel; Power Consumption(Typ)(mW): 525; Resolution(Bits): 16; Settling Time(us): 10; SubFamily: Precision DAC (=<10MSPS); DatasheetVersion: SBAS023A; PackageVersion: 4040000-6/G, 01/2011; PackageReference: DW28; PackageDescription: 28-Pin Plastic Small Outline, Body 17.90 x 7.50 mm, Pitch 1.27 mm; Supplier 1: Digi-Key; Supplier Part Number 1: DAC712ULG4-ND; Supplier 2: Mouser; Supplier Part Number 2: 595-DAC712ULG4; DNL(Max)(+/-LSB): 1; Eco-Plan: Green (RoHS & no Sb/Br); Mounting Technology: Surface Mount; Code_JEDEC: MS-013; ComponentLink1Description: Manufacturer URL; ComponentLink1URL: http://www.ti.com/; ComponentLink2Description: Datasheet; ComponentLink2URL: http://www.ti.com/general/docs/lit/getliterature.tsp?genericPartNumber=DAC712&fileType=pdf; ComponentLink3Description: Package Specification; ComponentLink3URL: http://www.ti.com/lit/ml/mpds175a/mpds175a.pdf
footprint TI-DW28_N (SOIC, 28-Leads, Body 17.9x7.5mm, Pitch 1.27mm, IPC Medium Density)
footprint TI-DW28_L (SOIC, 28-Leads, Body 17.9x7.5mm, Pitch 1.27mm, IPC High Density)
footprint TI-DW28_M (SOIC, 28-Leads, Body 17.9x7.5mm, Pitch 1.27mm, IPC Low Density)
pins: 1 DCOM (power) "Power-Supply return for digital currents", 2 ACOM (power) "Analog Supply Return", 3 VOUT (out) "+/-10V D/A Output", 4 OFFSET ADJUST (in) "Offset Adjust (Bipolar)", 5 VREF OUT (out) "Voltage Reference Output", 6 GAIN ADJUST (in) "Gain Adjust", 7 VCC+ (power) "+12V to +15V Supply", 8 VCC- (power) "-12V to -15V Supply", 9 ~{CLR} (in) "CLEAR; Sets D/A output to Bipolar Zero (Active Low)", 10 ~{WR} (in) "Write (Active Low)", 11 ~{A1} (in) "Enable for D/A latch (Active Low)", 12 ~{A0} (in) "Enable for Input latch (Active Low)", 13 D15 (MSB) (in) "Data Bit 15 (Most Significant Bit)", 14 D14 (in) "Data Bit 14", 15 D13 (in) "Data Bit 13", 16 D12 (in) "Data Bit 12", 17 D11 (in) "Data Bit 11", 18 D10 (in) "Data Bit 10", 19 D9 (in) "Data Bit 9", 20 D8 (in) "Data Bit 8", 21 D7 (in) "Data Bit 7", 22 D6 (in) "Data Bit 6", 23 D5 (in) "Data Bit 5", 24 D4 (in) "Data Bit 4", 25 D3 (in) "Data Bit 3", 26 D2 (in) "Data Bit 2", 27 D1 (in) "Data Bit 1", 28 D0 (LSB) (in) "Data Bit 0 (Least Significant Bit)"

## DAC714P
designator U?
16-Bit DAC with Serial Data Interface, -40 to 85 degC, 16-pin DIP (N16), Green (RoHS & no Sb/Br-pin); Manufacturer: Texas Instruments; PartNumber: DAC714P; DAC Channels: 1; DNL(Max)(+/-LSB): 4; Eco-Plan: Green (RoHS & no Sb/Br); Interface: Serial SPI; Power Consumption(Typ)(mW): 525; Resolution(Bits): 16; Settling Time(us): 10; SubFamily: Precision DAC (=<10MSPS); DatasheetVersion: SBAS032A; PackageVersion: 4040049/E, 12/2002; PackageReference: N16; PackageDescription: 16-Pin Plastic In-Line, Body 19.305 x 6.35 mm, Pitch 2.54 mm; Supplier 1: Digi-Key; Supplier Part Number 1: DAC714P-ND; Supplier 2: Farnell; Supplier Part Number 2: 1254318; Supplier 3: Newark; Supplier Part Number 3: 78K7952; Supplier 4: Mouser; Supplier Part Number 4: 595-DAC714P; INL(Max)(+/-LSB): 4; Mounting Technology: Through Hole; Code_JEDEC: MS-001; ComponentLink1Description: Manufacturer URL; ComponentLink1URL: http://www.ti.com/; ComponentLink2Description: Datasheet; ComponentLink2URL: http://www.ti.com/general/docs/lit/getliterature.tsp?genericPartNumber=DAC714&fileType=pdf; ComponentLink3Description: Package Specification; ComponentLink3URL: http://www.ti.com/litv/pdf/mpdi002c
footprint TI-N16 (DIP, 16-Leads, Body 19.305x6.35mm, Pitch 2.54mm)
pins: 1 ~{CLK} (in) "Serial Data Clock", 2 ~{A0} (in) "Enable for Input Register (Active Low)", 3 ~{A1} (in) "Enable for D/A Latch (Active Low)", 4 SDI (in) "Serial Data Input", 5 SDO (out) "Serial Data Output", 6 DCOM (power) "Digital Ground", 7 VCC+ (power) "Positive Power Supply", 8 ACOM (power) "Analog Ground", 9 VOUT (out) "D/A Output", 10 RFB2 (in) "+/-10V Range Feedback Output", 11 RBPO "Bipolar Offset", 12 VREF OUT (out) "Voltage Reference Output", 13 OFFSET ADJUST (in) "Offset Adjust", 14 GAIN ADJUST (in) "Gain Adjust", 15 VCC- (power) "Negative Power Supply", 16 ~{CLR} (in) "Clear"

## DAC714PG4
designator U?
16-Bit DAC with Serial Data Interface, -40 to 85 degC, 16-pin DIP (N16), Green (RoHS & no Sb/Br-pin); Manufacturer: Texas Instruments; PartNumber: DAC714PG4; DAC Channels: 1; DNL(Max)(+/-LSB): 4; Eco-Plan: Green (RoHS & no Sb/Br); Interface: Serial SPI; Power Consumption(Typ)(mW): 525; Resolution(Bits): 16; Settling Time(us): 10; SubFamily: Precision DAC (=<10MSPS); DatasheetVersion: SBAS032A; PackageVersion: 4040049/E, 12/2002; PackageReference: N16; PackageDescription: 16-Pin Plastic In-Line, Body 19.305 x 6.35 mm, Pitch 2.54 mm; Supplier 1: Digi-Key; Supplier Part Number 1: DAC714PG4-ND; Supplier 2: Mouser; Supplier Part Number 2: 595-DAC714PG4; INL(Max)(+/-LSB): 4; Mounting Technology: Through Hole; Code_JEDEC: MS-001; ComponentLink1Description: Manufacturer URL; ComponentLink1URL: http://www.ti.com/; ComponentLink2Description: Datasheet; ComponentLink2URL: http://www.ti.com/general/docs/lit/getliterature.tsp?genericPartNumber=DAC714&fileType=pdf; ComponentLink3Description: Package Specification; ComponentLink3URL: http://www.ti.com/litv/pdf/mpdi002c
footprint TI-N16 (DIP, 16-Leads, Body 19.305x6.35mm, Pitch 2.54mm)
pins: 1 ~{CLK} (in) "Serial Data Clock", 2 ~{A0} (in) "Enable for Input Register (Active Low)", 3 ~{A1} (in) "Enable for D/A Latch (Active Low)", 4 SDI (in) "Serial Data Input", 5 SDO (out) "Serial Data Output", 6 DCOM (power) "Digital Ground", 7 VCC+ (power) "Positive Power Supply", 8 ACOM (power) "Analog Ground", 9 VOUT (out) "D/A Output", 10 RFB2 (in) "+/-10V Range Feedback Output", 11 RBPO "Bipolar Offset", 12 VREF OUT (out) "Voltage Reference Output", 13 OFFSET ADJUST (in) "Offset Adjust", 14 GAIN ADJUST (in) "Gain Adjust", 15 VCC- (power) "Negative Power Supply", 16 ~{CLR} (in) "Clear"

## DAC714U
designator U?
16-Bit DAC with Serial Data Interface, -40 to 85 degC, 16-pin SOIC (DW16), Green (RoHS & no Sb/Br); Manufacturer: Texas Instruments; PartNumber: DAC714U; DAC Channels: 1; DNL(Max)(+/-LSB): 4; Interface: Serial SPI; Power Consumption(Typ)(mW): 525; Resolution(Bits): 16; Settling Time(us): 10; SubFamily: Precision DAC (=<10MSPS); DatasheetVersion: SBAS032A; PackageVersion: 4040000-2/G, 01/2011; PackageReference: DW16; PackageDescription: 16-Pin Plastic Small Outline, Body 10.30 x 7.50 mm, Pitch 1.27 mm; Supplier 1: Digi-Key; Supplier Part Number 1: DAC714U-ND; Supplier 2: Farnell; Supplier Part Number 2: 1214385; Supplier 3: Newark; Supplier Part Number 3: 96K8415; Supplier 4: Newark; Supplier Part Number 4: 17M6575; Supplier 5: Mouser; Supplier Part Number 5: 595-DAC714U; Eco-Plan: Green (RoHS & no Sb/Br); INL(Max)(+/-LSB): 4; Mounting Technology: Surface Mount; Code_JEDEC: MS-013; ComponentLink1Description: Manufacturer URL; ComponentLink1URL: http://www.ti.com/; ComponentLink2Description: Datasheet; ComponentLink2URL: http://www.ti.com/general/docs/lit/getliterature.tsp?genericPartNumber=DAC714&fileType=pdf; ComponentLink3Description: Package Specification; ComponentLink3URL: http://www.ti.com/litv/pdf/msoi003g
footprint TI-DW16_N (SOIC, 16-Leads, Body 10.3x7.5mm, Pitch 1.27mm, IPC Medium Density)
footprint TI-DW16_L (SOIC, 16-Leads, Body 10.3x7.5mm, Pitch 1.27mm, IPC High Density)
footprint TI-DW16_M (SOIC, 16-Leads, Body 10.3x7.5mm, Pitch 1.27mm, IPC Low Density)
pins: 1 ~{CLK} (in) "Serial Data Clock", 2 ~{A0} (in) "Enable for Input Register (Active Low)", 3 ~{A1} (in) "Enable for D/A Latch (Active Low)", 4 SDI (in) "Serial Data Input", 5 SDO (out) "Serial Data Output", 6 DCOM (power) "Digital Ground", 7 VCC+ (power) "Positive Power Supply", 8 ACOM (power) "Analog Ground", 9 VOUT (out) "D/A Output", 10 RFB2 (in) "+/-10V Range Feedback Output", 11 RBPO "Bipolar Offset", 12 VREF OUT (out) "Voltage Reference Output", 13 OFFSET ADJUST (in) "Offset Adjust", 14 GAIN ADJUST (in) "Gain Adjust", 15 VCC- (power) "Negative Power Supply", 16 ~{CLR} (in) "Clear"

## DAC714U/1K
designator U?
16-Bit DAC with Serial Data Interface, -40 to 85 degC, 16-pin SOIC (DW16), Green (RoHS & no Sb/Br); Manufacturer: Texas Instruments; PartNumber: DAC714U/1K; DAC Channels: 1; DNL(Max)(+/-LSB): 4; Interface: Serial SPI; Power Consumption(Typ)(mW): 525; Resolution(Bits): 16; Settling Time(us): 10; SubFamily: Precision DAC (=<10MSPS); DatasheetVersion: SBAS032A; PackageVersion: 4040000-2/G, 01/2011; PackageReference: DW16; PackageDescription: 16-Pin Plastic Small Outline, Body 10.30 x 7.50 mm, Pitch 1.27 mm; Supplier 1: Digi-Key; Supplier Part Number 1: DAC714U/1K-ND; Supplier 2: Mouser; Supplier Part Number 2: 595-DAC714U/1K; Eco-Plan: Green (RoHS & no Sb/Br); INL(Max)(+/-LSB): 4; Mounting Technology: Surface Mount; Code_JEDEC: MS-013; ComponentLink1Description: Manufacturer URL; ComponentLink1URL: http://www.ti.com/; ComponentLink2Description: Datasheet; ComponentLink2URL: http://www.ti.com/general/docs/lit/getliterature.tsp?genericPartNumber=DAC714&fileType=pdf; ComponentLink3Description: Package Specification; ComponentLink3URL: http://www.ti.com/litv/pdf/msoi003g
footprint TI-DW16_N (SOIC, 16-Leads, Body 10.3x7.5mm, Pitch 1.27mm, IPC Medium Density)
footprint TI-DW16_L (SOIC, 16-Leads, Body 10.3x7.5mm, Pitch 1.27mm, IPC High Density)
footprint TI-DW16_M (SOIC, 16-Leads, Body 10.3x7.5mm, Pitch 1.27mm, IPC Low Density)
pins: 1 ~{CLK} (in) "Serial Data Clock", 2 ~{A0} (in) "Enable for Input Register (Active Low)", 3 ~{A1} (in) "Enable for D/A Latch (Active Low)", 4 SDI (in) "Serial Data Input", 5 SDO (out) "Serial Data Output", 6 DCOM (power) "Digital Ground", 7 VCC+ (power) "Positive Power Supply", 8 ACOM (power) "Analog Ground", 9 VOUT (out) "D/A Output", 10 RFB2 (in) "+/-10V Range Feedback Output", 11 RBPO "Bipolar Offset", 12 VREF OUT (out) "Voltage Reference Output", 13 OFFSET ADJUST (in) "Offset Adjust", 14 GAIN ADJUST (in) "Gain Adjust", 15 VCC- (power) "Negative Power Supply", 16 ~{CLR} (in) "Clear"

## DAC714U/1KG4
designator U?
16-Bit DAC with Serial Data Interface, -40 to 85 degC, 16-pin SOIC (DW16), Green (RoHS & no Sb/Br); Manufacturer: Texas Instruments; PartNumber: DAC714U/1KG4; DAC Channels: 1; DNL(Max)(+/-LSB): 4; Interface: Serial SPI; Power Consumption(Typ)(mW): 525; Resolution(Bits): 16; Settling Time(us): 10; SubFamily: Precision DAC (=<10MSPS); DatasheetVersion: SBAS032A; PackageVersion: 4040000-2/G, 01/2011; PackageReference: DW16; PackageDescription: 16-Pin Plastic Small Outline, Body 10.30 x 7.50 mm, Pitch 1.27 mm; Supplier 1: Digi-Key; Supplier Part Number 1: DAC714U/1KG4-ND; Supplier 2: Mouser; Supplier Part Number 2: 595-DAC714U/1KG4; Eco-Plan: Green (RoHS & no Sb/Br); INL(Max)(+/-LSB): 4; Mounting Technology: Surface Mount; Code_JEDEC: MS-013; ComponentLink1Description: Manufacturer URL; ComponentLink1URL: http://www.ti.com/; ComponentLink2Description: Datasheet; ComponentLink2URL: http://www.ti.com/general/docs/lit/getliterature.tsp?genericPartNumber=DAC714&fileType=pdf; ComponentLink3Description: Package Specification; ComponentLink3URL: http://www.ti.com/litv/pdf/msoi003g
footprint TI-DW16_N (SOIC, 16-Leads, Body 10.3x7.5mm, Pitch 1.27mm, IPC Medium Density)
footprint TI-DW16_L (SOIC, 16-Leads, Body 10.3x7.5mm, Pitch 1.27mm, IPC High Density)
footprint TI-DW16_M (SOIC, 16-Leads, Body 10.3x7.5mm, Pitch 1.27mm, IPC Low Density)
pins: 1 ~{CLK} (in) "Serial Data Clock", 2 ~{A0} (in) "Enable for Input Register (Active Low)", 3 ~{A1} (in) "Enable for D/A Latch (Active Low)", 4 SDI (in) "Serial Data Input", 5 SDO (out) "Serial Data Output", 6 DCOM (power) "Digital Ground", 7 VCC+ (power) "Positive Power Supply", 8 ACOM (power) "Analog Ground", 9 VOUT (out) "D/A Output", 10 RFB2 (in) "+/-10V Range Feedback Output", 11 RBPO "Bipolar Offset", 12 VREF OUT (out) "Voltage Reference Output", 13 OFFSET ADJUST (in) "Offset Adjust", 14 GAIN ADJUST (in) "Gain Adjust", 15 VCC- (power) "Negative Power Supply", 16 ~{CLR} (in) "Clear"

## DAC714UG4
designator U?
16-Bit DAC with Serial Data Interface, -40 to 85 degC, 16-pin SOIC (DW16), Green (RoHS & no Sb/Br); Manufacturer: Texas Instruments; PartNumber: DAC714UG4; DAC Channels: 1; DNL(Max)(+/-LSB): 4; Interface: Serial SPI; Power Consumption(Typ)(mW): 525; Resolution(Bits): 16; Settling Time(us): 10; SubFamily: Precision DAC (=<10MSPS); DatasheetVersion: SBAS032A; PackageVersion: 4040000-2/G, 01/2011; PackageReference: DW16; PackageDescription: 16-Pin Plastic Small Outline, Body 10.30 x 7.50 mm, Pitch 1.27 mm; Supplier 1: Digi-Key; Supplier Part Number 1: DAC714UG4-ND; Supplier 2: Mouser; Supplier Part Number 2: 595-DAC714UG4; Eco-Plan: Green (RoHS & no Sb/Br); INL(Max)(+/-LSB): 4; Mounting Technology: Surface Mount; Code_JEDEC: MS-013; ComponentLink1Description: Manufacturer URL; ComponentLink1URL: http://www.ti.com/; ComponentLink2Description: Datasheet; ComponentLink2URL: http://www.ti.com/general/docs/lit/getliterature.tsp?genericPartNumber=DAC714&fileType=pdf; ComponentLink3Description: Package Specification; ComponentLink3URL: http://www.ti.com/litv/pdf/msoi003g
footprint TI-DW16_N (SOIC, 16-Leads, Body 10.3x7.5mm, Pitch 1.27mm, IPC Medium Density)
footprint TI-DW16_L (SOIC, 16-Leads, Body 10.3x7.5mm, Pitch 1.27mm, IPC High Density)
footprint TI-DW16_M (SOIC, 16-Leads, Body 10.3x7.5mm, Pitch 1.27mm, IPC Low Density)
pins: 1 ~{CLK} (in) "Serial Data Clock", 2 ~{A0} (in) "Enable for Input Register (Active Low)", 3 ~{A1} (in) "Enable for D/A Latch (Active Low)", 4 SDI (in) "Serial Data Input", 5 SDO (out) "Serial Data Output", 6 DCOM (power) "Digital Ground", 7 VCC+ (power) "Positive Power Supply", 8 ACOM (power) "Analog Ground", 9 VOUT (out) "D/A Output", 10 RFB2 (in) "+/-10V Range Feedback Output", 11 RBPO "Bipolar Offset", 12 VREF OUT (out) "Voltage Reference Output", 13 OFFSET ADJUST (in) "Offset Adjust", 14 GAIN ADJUST (in) "Gain Adjust", 15 VCC- (power) "Negative Power Supply", 16 ~{CLR} (in) "Clear"

## DAC715P
designator U?
DAC with 16-Bit Bus Interface, -40 to 85 degC, 28-pin DIP (NT28); Manufacturer: Texas Instruments; PartNumber: DAC715P; DAC Channels: 1; DNL(Max)(+/-LSB): 4; Interface: Parallel; Power Consumption(Typ)(mW): 525; Resolution(Bits): 16; Settling Time(us): 10; SubFamily: Precision DAC (=<10MSPS); DatasheetVersion: SBAS046; PackageVersion: 4040050/C, 04/2009; PackageReference: NT28; PackageDescription: 28-Pin Plastic Dual-In-Line Package, Body 35.69 x 6.73 mm, Pitch 2.54 mm; Supplier 1: Digi-Key; Supplier Part Number 1: DAC715P-ND; Supplier 2: Farnell; Supplier Part Number 2: 1460194; Supplier 3: Newark; Supplier Part Number 3: 61M5731; Supplier 4: Newark; Supplier Part Number 4: 74C9137; Supplier 5: Mouser; Supplier Part Number 5: 595-DAC715P; INL(Max)(+/-LSB): 4; Mounting Technology: Through Hole; ComponentLink1Description: Manufacturer URL; ComponentLink1URL: http://www.ti.com/; ComponentLink2Description: Datasheet; ComponentLink2URL: http://www.ti.com/general/docs/lit/getliterature.tsp?genericPartNumber=DAC715&fileType=pdf; ComponentLink3Description: Package Specification; ComponentLink3URL: http://www.ti.com/lit/ml/mpdi004a/mpdi004a.pdf
footprint TI-NT28 (DIP, 28-Leads, Body 35.69x6.73mm, Pitch 2.54mm)
pins: 1 DCOM (power) "Power-Supply return for digital currents", 2 ACOM (power) "Analog Supply Return", 3 VOUT (out) "+/-10V D/A Output", 4 OFFSET ADJUST (in) "Offset Adjust (Bipolar)", 5 VREF OUT (out) "Voltage Reference Output", 6 GAIN ADJUST (in) "Gain Adjust", 7 VCC+ (power) "+12V to +15V Supply", 8 VCC- (power) "-12V to -15V Supply", 9 ~{CLR} (in) "CLEAR; Sets D/A output to Bipolar Zero (Active Low)", 10 ~{WR} (in) "Write (Active Low)", 11 ~{A1} (in) "Enable for D/A latch (Active Low)", 12 ~{A0} (in) "Enable for Input latch (Active Low)", 13 D15 (MSB) (in) "Data Bit 15 (Most Significant Bit)", 14 D14 (in) "Data Bit 14", 15 D13 (in) "Data Bit 13", 16 D12 (in) "Data Bit 12", 17 D11 (in) "Data Bit 11", 18 D10 (in) "Data Bit 10", 19 D9 (in) "Data Bit 9", 20 D8 (in) "Data Bit 8", 21 D7 (in) "Data Bit 7", 22 D6 (in) "Data Bit 6", 23 D5 (in) "Data Bit 5", 24 D4 (in) "Data Bit 4", 25 D3 (in) "Data Bit 3", 26 D2 (in) "Data Bit 2", 27 D1 (in) "Data Bit 1", 28 D0 (LSB) (in) "Data Bit 0 (Least Significant Bit)"

## DAC715PB
designator U?
DAC with 16-Bit Bus Interface, -40 to 85 degC, 28-pin DIP (NT28); Manufacturer: Texas Instruments; PartNumber: DAC715PB; DAC Channels: 1; DNL(Max)(+/-LSB): 2; Interface: Parallel; Power Consumption(Typ)(mW): 525; Resolution(Bits): 16; Settling Time(us): 10; SubFamily: Precision DAC (=<10MSPS); DatasheetVersion: SBAS046; PackageVersion: 4040050/C, 04/2009; PackageReference: NT28; PackageDescription: 28-Pin Plastic Dual-In-Line Package, Body 35.69 x 6.73 mm, Pitch 2.54 mm; Supplier 1: Digi-Key; Supplier Part Number 1: 296-33253-5-ND; Supplier 2: Newark; Supplier Part Number 2: 74C9138; Supplier 3: Mouser; Supplier Part Number 3: 595-DAC715PB; INL(Max)(+/-LSB): 2; Mounting Technology: Through Hole; ComponentLink1Description: Manufacturer URL; ComponentLink1URL: http://www.ti.com/; ComponentLink2Description: Datasheet; ComponentLink2URL: http://www.ti.com/general/docs/lit/getliterature.tsp?genericPartNumber=DAC715&fileType=pdf; ComponentLink3Description: Package Specification; ComponentLink3URL: http://www.ti.com/lit/ml/mpdi004a/mpdi004a.pdf
footprint TI-NT28 (DIP, 28-Leads, Body 35.69x6.73mm, Pitch 2.54mm)
pins: 1 DCOM (power) "Power-Supply return for digital currents", 2 ACOM (power) "Analog Supply Return", 3 VOUT (out) "+/-10V D/A Output", 4 OFFSET ADJUST (in) "Offset Adjust (Bipolar)", 5 VREF OUT (out) "Voltage Reference Output", 6 GAIN ADJUST (in) "Gain Adjust", 7 VCC+ (power) "+12V to +15V Supply", 8 VCC- (power) "-12V to -15V Supply", 9 ~{CLR} (in) "CLEAR; Sets D/A output to Bipolar Zero (Active Low)", 10 ~{WR} (in) "Write (Active Low)", 11 ~{A1} (in) "Enable for D/A latch (Active Low)", 12 ~{A0} (in) "Enable for Input latch (Active Low)", 13 D15 (MSB) (in) "Data Bit 15 (Most Significant Bit)", 14 D14 (in) "Data Bit 14", 15 D13 (in) "Data Bit 13", 16 D12 (in) "Data Bit 12", 17 D11 (in) "Data Bit 11", 18 D10 (in) "Data Bit 10", 19 D9 (in) "Data Bit 9", 20 D8 (in) "Data Bit 8", 21 D7 (in) "Data Bit 7", 22 D6 (in) "Data Bit 6", 23 D5 (in) "Data Bit 5", 24 D4 (in) "Data Bit 4", 25 D3 (in) "Data Bit 3", 26 D2 (in) "Data Bit 2", 27 D1 (in) "Data Bit 1", 28 D0 (LSB) (in) "Data Bit 0 (Least Significant Bit)"

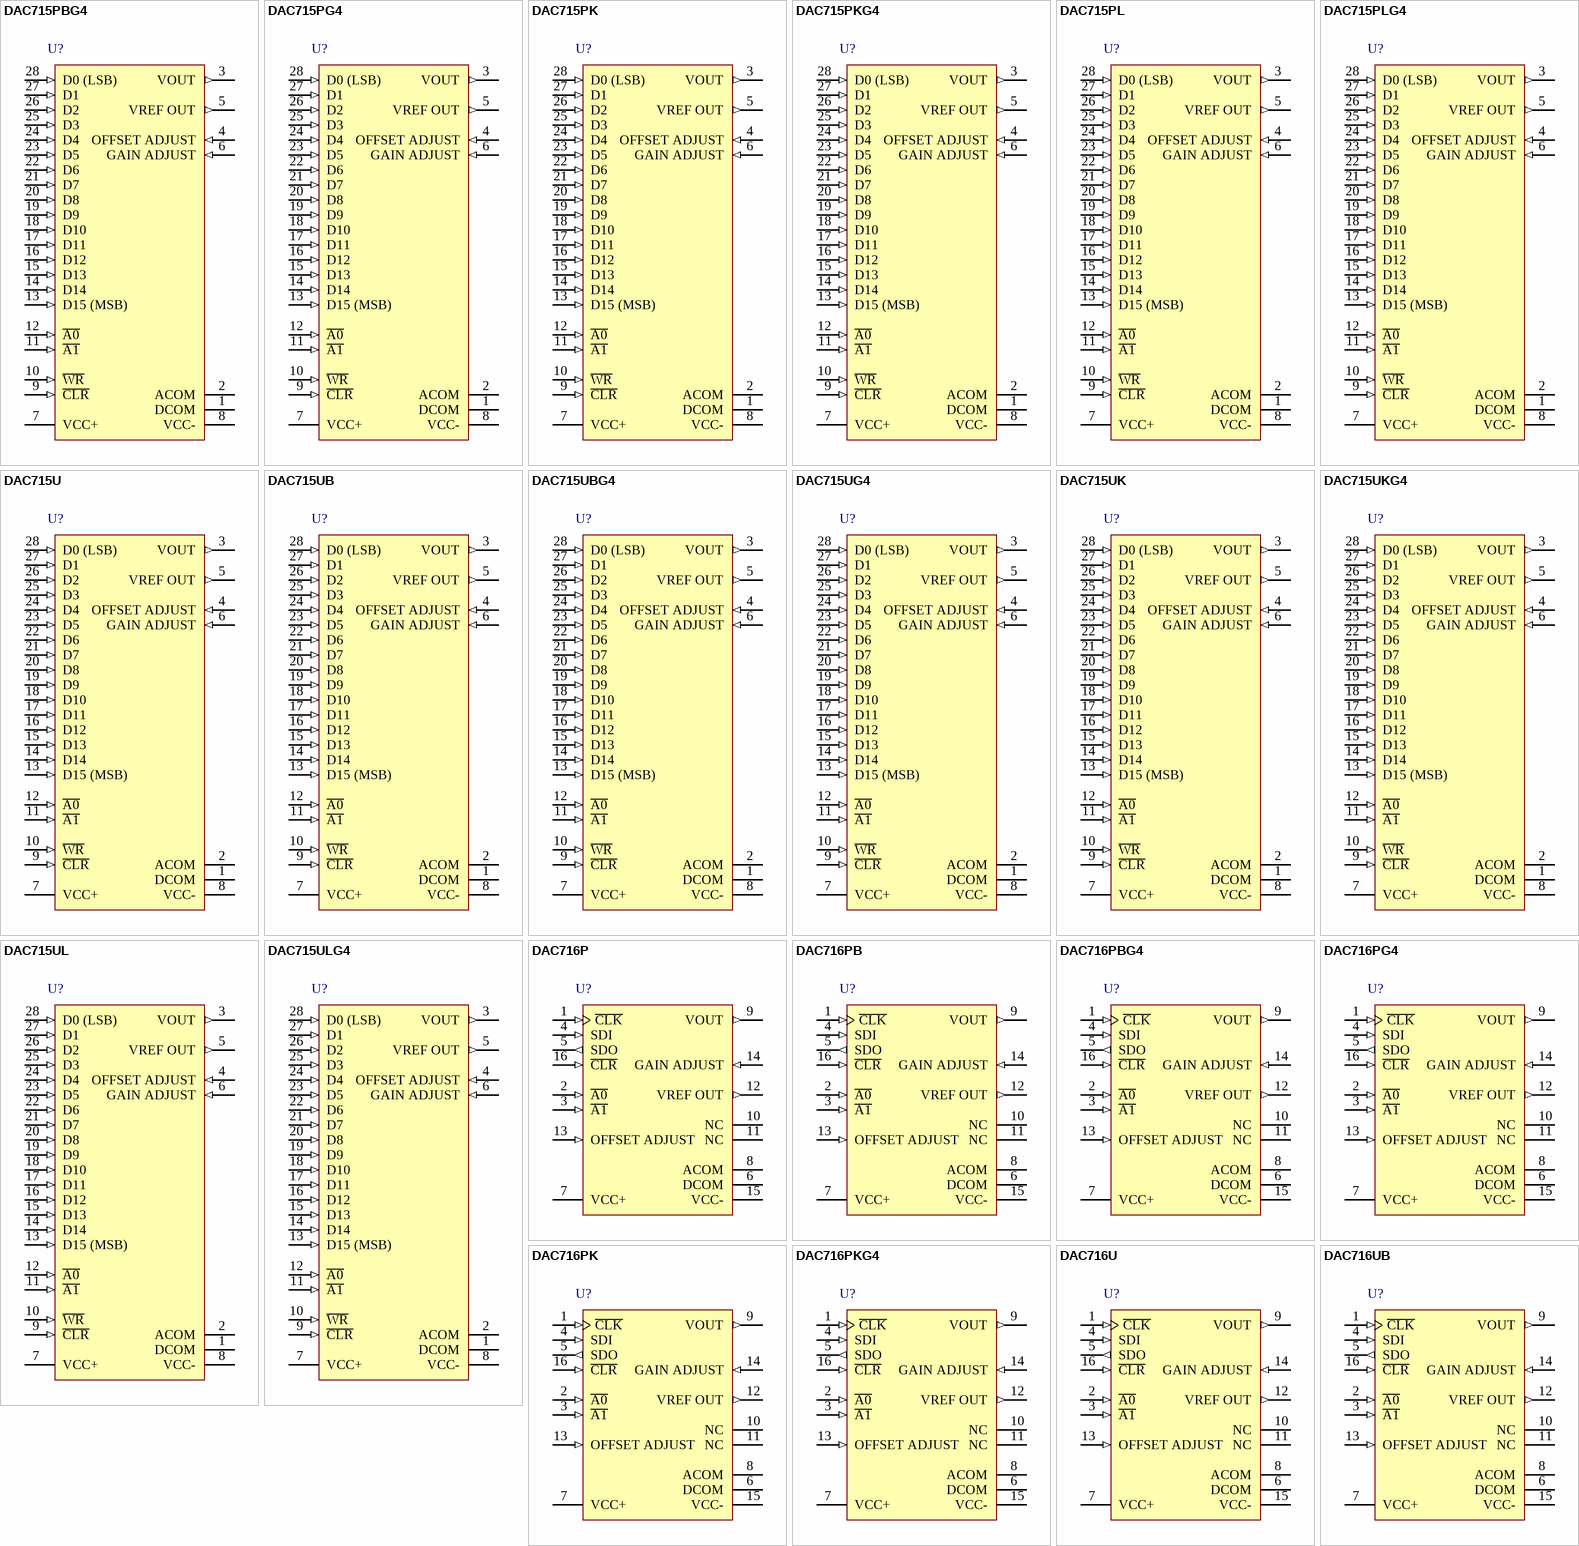
[diagram p4: symbols DAC715PBG4 to DAC716UB]